# EAGLE library part HEADER15X02 (library custom)
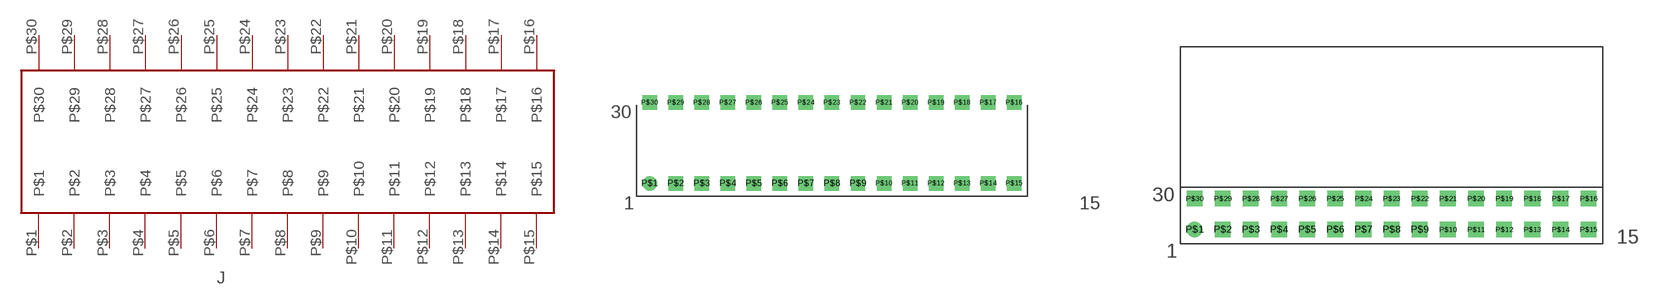
[diagram p21: symbol with the pads of HEADER15X02_.1_.1_FEMALE_RA_5-532955-5; footprints HEADER15X02_.1_.1_FEMALE_RA_5-532955-5, HEADER15X02_.1_.1_FEMALE_PPPC152LJBN-RC]

Designator prefix J

## HEADER15X02  [HEADER15X02_.1_.1_FEMALE_RA_5-532955-5]
P$1  P$1
P$2  P$2
P$3  P$3
P$4  P$4
P$5  P$5
P$6  P$6
P$7  P$7
P$8  P$8
P$9  P$9
P$10  P$10
P$11  P$11
P$12  P$12
P$13  P$13
P$14  P$14
P$15  P$15
P$16  P$16
P$17  P$17
P$18  P$18
P$19  P$19
P$20  P$20
P$21  P$21
P$22  P$22
P$23  P$23
P$24  P$24
P$25  P$25
P$26  P$26
P$27  P$27
P$28  P$28
P$29  P$29
P$30  P$30

## HEADER15X021  [HEADER15X02_.1_.1_FEMALE_PPPC152LJBN-RC]
Pads as for HEADER15X02_.1_.1_FEMALE_RA_5-532955-5

## Footprint HEADER15X02_.1_.1_FEMALE_RA_5-532955-5 (pad centres in mm)
drill 0.9 round: P$1 -17.78,-3.81
drill 0.9 square: P$2 -15.24,-3.81; P$3 -12.7,-3.81; P$4 -10.16,-3.81; P$5 -7.62,-3.81; P$6 -5.08,-3.81; P$7 -2.54,-3.81; P$8 0,-3.81; P$9 2.54,-3.81; P$10 5.08,-3.81; P$11 7.62,-3.81; P$12 10.16,-3.81; P$13 12.7,-3.81; P$14 15.24,-3.81; P$15 17.78,-3.81; P$16 17.78,4.064; P$17 15.24,4.064; P$18 12.7,4.064; P$19 10.16,4.064; P$20 7.62,4.064; P$21 5.08,4.064; P$22 2.54,4.064; P$23 0,4.064; P$24 -2.54,4.064; P$25 -5.08,4.064; P$26 -7.62,4.064; P$27 -10.16,4.064; P$28 -12.7,4.064; P$29 -15.24,4.064; P$30 -17.78,4.064

## Footprint HEADER15X02_.1_.1_FEMALE_PPPC152LJBN-RC (pad centres in mm)
drill 0.9 round: P$1 -17.78,-1.27
drill 0.9 square: P$2 -15.24,-1.27; P$3 -12.7,-1.27; P$4 -10.16,-1.27; P$5 -7.62,-1.27; P$6 -5.08,-1.27; P$7 -2.54,-1.27; P$8 0,-1.27; P$9 2.54,-1.27; P$10 5.08,-1.27; P$11 7.62,-1.27; P$12 10.16,-1.27; P$13 12.7,-1.27; P$14 15.24,-1.27; P$15 17.78,-1.27; P$16 17.78,1.524; P$17 15.24,1.524; P$18 12.7,1.524; P$19 10.16,1.524; P$20 7.62,1.524; P$21 5.08,1.524; P$22 2.54,1.524; P$23 0,1.524; P$24 -2.54,1.524; P$25 -5.08,1.524; P$26 -7.62,1.524; P$27 -10.16,1.524; P$28 -12.7,1.524; P$29 -15.24,1.524; P$30 -17.78,1.524